# Altium footprint library D 电源模块.PcbLib: 107 footprints (part 3 of 7)
Each footprint in its own frame and in the unit in brackets; x right, y up, seen from the top. Pads: shape width x height; smd on the part's side, far side on the other; paste and mask are expansions set on the pad; w line width, h text height; cw(c..) or ccw(c..) is an arc to the next point about the centre after c.
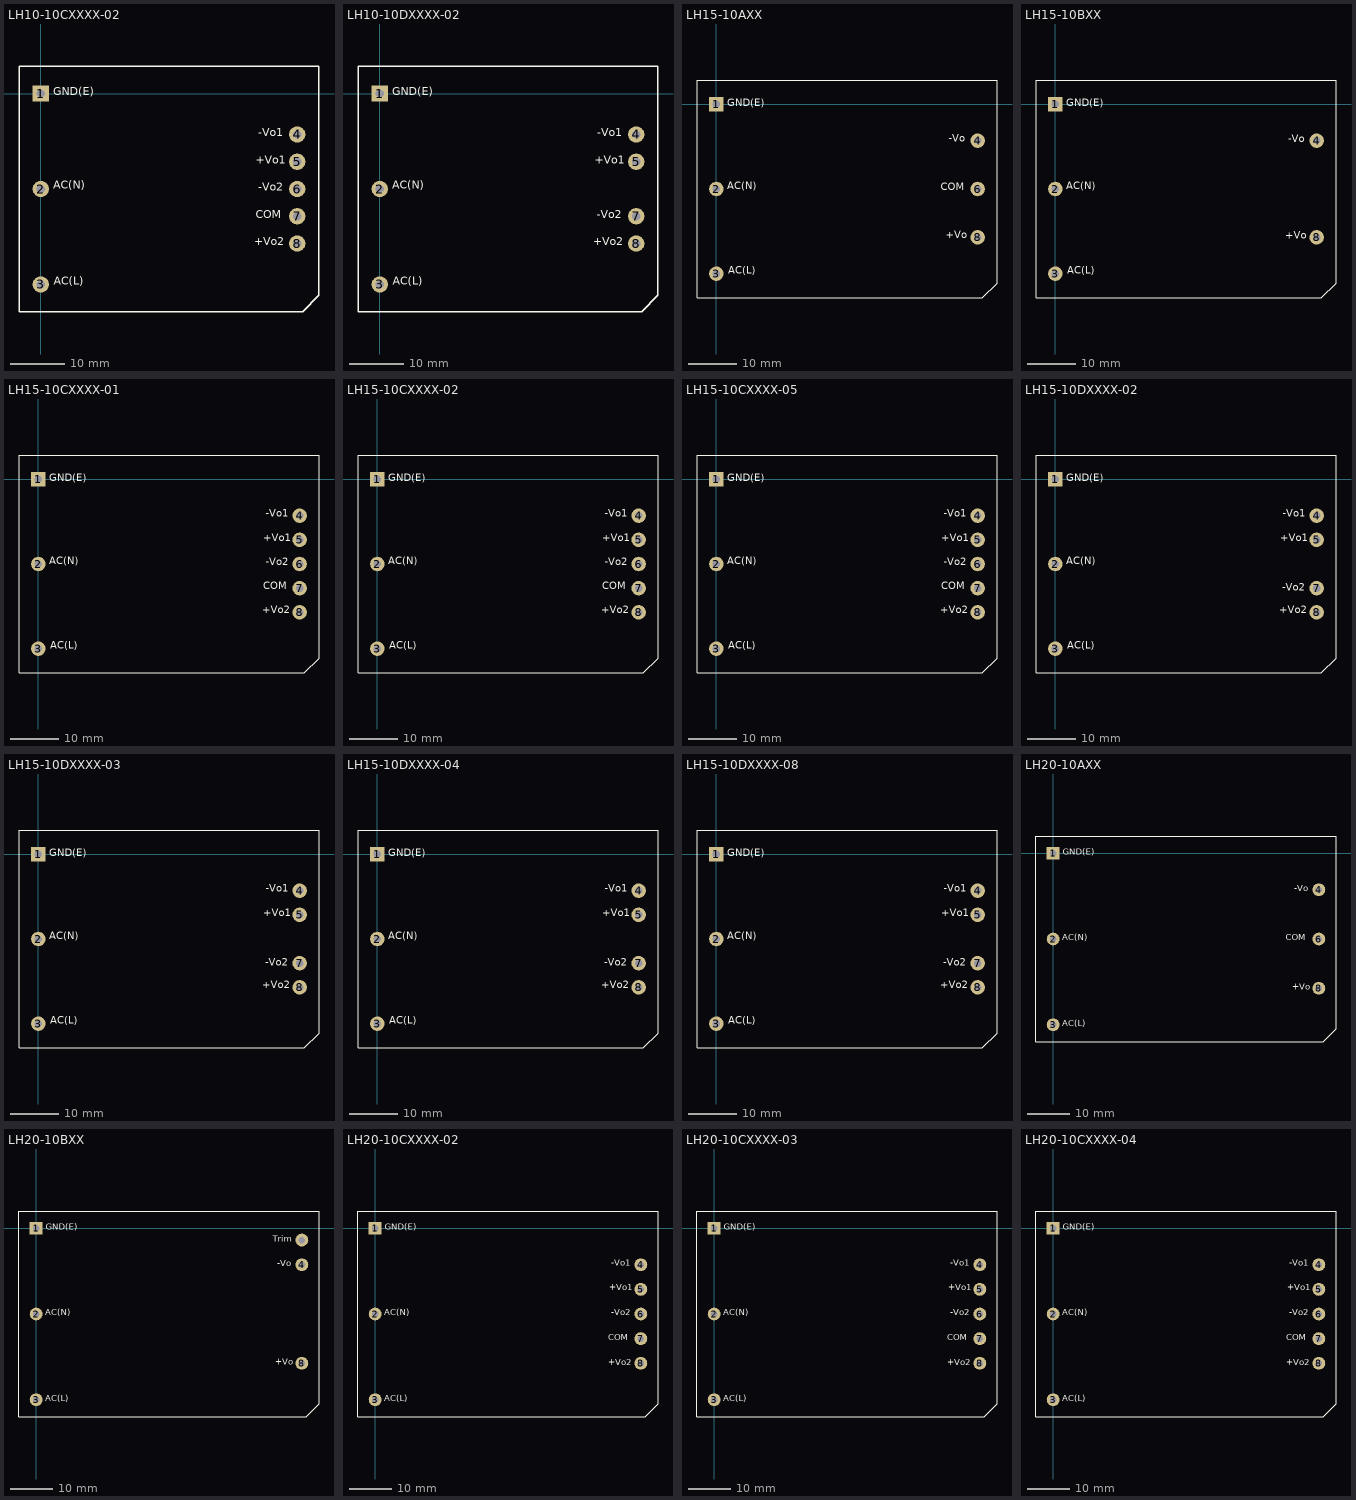
[diagram p2: the footprints below, top view; thin cyan lines are the x and y axes]

## LH10-10CXXXX-02 [mm] "金升阳 10. W 高性能小体积标准AC-DC模块(85-265VAC,120-370VDC)"
height 21
pads (8):
  rect 3x3 hole 1.5: 1(0,0)
  round 3 hole 1.5: 2(0,-17.5) 3(0,-35) 4(47,-7.5) 5(47,-12.5) 6(47,-17.5) 7(47,-22.5) 8(47,-27.5)
Top Overlay:
  lines w0.254: -4,-40 -4,5 51,5 51,-37 48,-40 -4,-40
  text "+Vo1" at 39.37,-13.462 h2.54
  text "+Vo2" at 39.116,-28.321 h2.54
  text "-Vo1" at 39.878,-8.382 h2.54
  text "AC(L)" at 2.413,-35.56 h2.54
  text "AC(N)" at 2.286,-18.034 h2.54
  text "GND(E)" at 2.286,-0.889 h2.54
  text "-Vo2" at 39.878,-18.415 h2.54
  text "COM" at 39.37,-23.368 h2.54
Bottom Overlay:
  text "+Vo1" at 44.196,-13.462 h2.54
  text "AC(L)" at 8.382,-35.56 h2.54
  text "AC(N)" at 8.636,-18.034 h2.54
  text "GND(E)" at 10.16,-0.889 h2.54
  text "-Vo1" at 44.196,-8.382 h2.54
  text "+Vo2" at 44.196,-28.448 h2.54
  text "-Vo2" at 44.323,-18.415 h2.54
  text "COM" at 44.323,-23.368 h2.54

## LH10-10DXXXX-02 [mm] "金升阳 10W 高性能小体积标准AC-DC模块(85-265VAC,120-370VDC)"
height 21
pads (7):
  rect 3x3 hole 1.5: 1(0,0)
  round 3 hole 1.5: 2(0,-17.5) 3(0,-35) 4(47,-7.5) 5(47,-12.5) 7(47,-22.5) 8(47,-27.5)
Top Overlay:
  lines w0.254: -4,-40 48,-40 51,-37 51,5 -4,5 -4,-40
  text "-Vo2" at 39.751,-23.368 h2.54
  text "GND(E)" at 2.286,-0.889 h2.54
  text "AC(N)" at 2.286,-18.034 h2.54
  text "AC(L)" at 2.413,-35.56 h2.54
  text "-Vo1" at 39.878,-8.382 h2.54
  text "+Vo2" at 39.116,-28.321 h2.54
  text "+Vo1" at 39.37,-13.462 h2.54
Bottom Overlay:
  text "-Vo2" at 44.196,-23.368 h2.54
  text "+Vo2" at 44.196,-28.448 h2.54
  text "-Vo1" at 44.196,-8.382 h2.54
  text "GND(E)" at 10.16,-0.889 h2.54
  text "AC(N)" at 8.636,-18.034 h2.54
  text "AC(L)" at 8.382,-35.56 h2.54
  text "+Vo1" at 44.196,-13.462 h2.54

## LH15-10AXX [mm] "金升阳 15 W 高性能小体积标准AC-DC模块(85-265VAC,120-370VDC)"
height 22.5
pads (6):
  rect 3x3 hole 1.5: 1(0,0)
  round 3 hole 1.5: 2(0,-17.5) 3(0,-35) 4(54,-7.5) 6(54,-17.5) 8(54,-27.5)
Top Overlay:
  lines w0.254: -4,-40 55,-40 58,-37 58,5 -4,5 -4,-40
  text "COM" at 46.355,-18.288 h2.54
  text "GND(E)" at 2.286,-0.889 h2.54
  text "AC(N)" at 2.286,-18.034 h2.54
  text "AC(L)" at 2.413,-35.56 h2.54
  text "-Vo" at 48.006,-8.255 h2.54
  text "+Vo" at 47.371,-28.194 h2.54
Bottom Overlay:
  text "COM" at 51.308,-18.288 h2.54
  text "+Vo" at 51.308,-28.321 h2.54
  text "-Vo" at 51.308,-8.255 h2.54
  text "GND(E)" at 10.16,-0.889 h2.54
  text "AC(N)" at 8.636,-18.034 h2.54
  text "AC(L)" at 8.382,-35.56 h2.54

## LH15-10BXX [mm] "金升阳 15 W 高性能小体积标准AC-DC模块(85-265VAC,120-370VDC)"
height 22.5
pads (5):
  rect 3x3 hole 1.5: 1(0,0)
  round 3 hole 1.5: 2(0,-17.5) 3(0,-35) 4(54,-7.5) 8(54,-27.5)
Top Overlay:
  lines w0.254: -4,-40 -4,5 58,5 58,-37 55,-40 -4,-40
  text "+Vo" at 47.498,-28.321 h2.54
  text "-Vo" at 48.133,-8.382 h2.54
  text "AC(L)" at 2.413,-35.56 h2.54
  text "AC(N)" at 2.286,-18.034 h2.54
  text "GND(E)" at 2.286,-0.889 h2.54
Bottom Overlay:
  text "AC(L)" at 8.382,-35.56 h2.54
  text "AC(N)" at 8.636,-18.034 h2.54
  text "GND(E)" at 10.16,-0.889 h2.54
  text "-Vo" at 51.308,-8.255 h2.54
  text "+Vo" at 51.308,-28.321 h2.54

## LH15-10CXXXX-01 [mm] "金升阳 15 W 高性能小体积标准AC-DC模块(85-265VAC,120-370VDC)"
height 22.5
pads (8):
  rect 3x3 hole 1.5: 1(0,0)
  round 3 hole 1.5: 2(0,-17.5) 3(0,-35) 4(54,-7.5) 5(54,-12.5) 6(54,-17.5) 7(54,-22.5) 8(54,-27.5)
Top Overlay:
  lines w0.254: -4,-40 55,-40 58,-37 58,5 -4,5 -4,-40
  text "COM" at 46.482,-23.241 h2.54
  text "-Vo2" at 46.99,-18.288 h2.54
  text "GND(E)" at 2.286,-0.889 h2.54
  text "AC(N)" at 2.286,-18.034 h2.54
  text "AC(L)" at 2.413,-35.56 h2.54
  text "-Vo1" at 46.99,-8.255 h2.54
  text "+Vo2" at 46.228,-28.194 h2.54
  text "+Vo1" at 46.482,-13.335 h2.54
Bottom Overlay:
  text "COM" at 51.435,-23.241 h2.54
  text "-Vo2" at 51.435,-18.288 h2.54
  text "+Vo2" at 51.308,-28.321 h2.54
  text "-Vo1" at 51.308,-8.255 h2.54
  text "GND(E)" at 10.16,-0.889 h2.54
  text "AC(N)" at 8.636,-18.034 h2.54
  text "AC(L)" at 8.382,-35.56 h2.54
  text "+Vo1" at 51.308,-13.335 h2.54

## LH15-10CXXXX-02 [mm] "金升阳 15 W 高性能小体积标准AC-DC模块(85-265VAC,120-370VDC)"
height 22.5
pads (8):
  rect 3x3 hole 1.5: 1(0,0)
  round 3 hole 1.5: 2(0,-17.5) 3(0,-35) 4(54,-7.5) 5(54,-12.5) 6(54,-17.5) 7(54,-22.5) 8(54,-27.5)
Top Overlay:
  lines w0.254: -4,-40 -4,5 58,5 58,-37 55,-40 -4,-40
  text "+Vo1" at 46.482,-13.335 h2.54
  text "+Vo2" at 46.228,-28.194 h2.54
  text "-Vo1" at 46.99,-8.255 h2.54
  text "AC(L)" at 2.413,-35.56 h2.54
  text "AC(N)" at 2.286,-18.034 h2.54
  text "GND(E)" at 2.286,-0.889 h2.54
  text "-Vo2" at 46.99,-18.288 h2.54
  text "COM" at 46.482,-23.241 h2.54
Bottom Overlay:
  text "+Vo1" at 51.308,-13.335 h2.54
  text "AC(L)" at 8.382,-35.56 h2.54
  text "AC(N)" at 8.636,-18.034 h2.54
  text "GND(E)" at 10.16,-0.889 h2.54
  text "-Vo1" at 51.308,-8.255 h2.54
  text "+Vo2" at 51.308,-28.321 h2.54
  text "-Vo2" at 51.435,-18.288 h2.54
  text "COM" at 51.435,-23.241 h2.54

## LH15-10CXXXX-05 [mm] "金升阳 15 W 高性能小体积标准AC-DC模块(85-265VAC,120-370VDC)"
height 22.5
pads (8):
  rect 3x3 hole 1.5: 1(0,0)
  round 3 hole 1.5: 2(0,-17.5) 3(0,-35) 4(54,-7.5) 5(54,-12.5) 6(54,-17.5) 7(54,-22.5) 8(54,-27.5)
Top Overlay:
  lines w0.254: -4,-40 -4,5 58,5 58,-37 55,-40 -4,-40
  text "+Vo1" at 46.482,-13.335 h2.54
  text "+Vo2" at 46.228,-28.194 h2.54
  text "-Vo1" at 46.99,-8.255 h2.54
  text "AC(L)" at 2.413,-35.56 h2.54
  text "AC(N)" at 2.286,-18.034 h2.54
  text "GND(E)" at 2.286,-0.889 h2.54
  text "-Vo2" at 46.99,-18.288 h2.54
  text "COM" at 46.482,-23.241 h2.54
Bottom Overlay:
  text "+Vo1" at 51.308,-13.335 h2.54
  text "AC(L)" at 8.382,-35.56 h2.54
  text "AC(N)" at 8.636,-18.034 h2.54
  text "GND(E)" at 10.16,-0.889 h2.54
  text "-Vo1" at 51.308,-8.255 h2.54
  text "+Vo2" at 51.308,-28.321 h2.54
  text "-Vo2" at 51.435,-18.288 h2.54
  text "COM" at 51.435,-23.241 h2.54

## LH15-10DXXXX-02 [mm] "金升阳 15 W 高性能小体积标准AC-DC模块(85-265VAC,120-370VDC)"
height 22.5
pads (7):
  rect 3x3 hole 1.5: 1(0,0)
  round 3 hole 1.5: 2(0,-17.5) 3(0,-35) 4(54,-7.5) 5(54,-12.5) 7(54,-22.5) 8(54,-27.5)
Top Overlay:
  lines w0.254: -4,-40 -4,5 58,5 58,-37 55,-40 -4,-40
  text "+Vo1" at 46.482,-13.335 h2.54
  text "+Vo2" at 46.228,-28.194 h2.54
  text "-Vo1" at 46.99,-8.255 h2.54
  text "AC(L)" at 2.413,-35.56 h2.54
  text "AC(N)" at 2.286,-18.034 h2.54
  text "GND(E)" at 2.286,-0.889 h2.54
  text "-Vo2" at 46.863,-23.495 h2.54
Bottom Overlay:
  text "+Vo1" at 51.308,-13.335 h2.54
  text "AC(L)" at 8.382,-35.56 h2.54
  text "AC(N)" at 8.636,-18.034 h2.54
  text "GND(E)" at 10.16,-0.889 h2.54
  text "-Vo1" at 51.308,-8.255 h2.54
  text "+Vo2" at 51.308,-28.321 h2.54
  text "-Vo2" at 51.308,-23.495 h2.54

## LH15-10DXXXX-03 [mm] "金升阳 15 W 高性能小体积标准AC-DC模块(85-265VAC,120-370VDC)"
height 22.5
pads (7):
  rect 3x3 hole 1.5: 1(0,0)
  round 3 hole 1.5: 2(0,-17.5) 3(0,-35) 4(54,-7.5) 5(54,-12.5) 7(54,-22.5) 8(54,-27.5)
Top Overlay:
  lines w0.254: -4,-40 55,-40 58,-37 58,5 -4,5 -4,-40
  text "-Vo2" at 46.863,-23.495 h2.54
  text "GND(E)" at 2.286,-0.889 h2.54
  text "AC(N)" at 2.286,-18.034 h2.54
  text "AC(L)" at 2.413,-35.56 h2.54
  text "-Vo1" at 46.99,-8.255 h2.54
  text "+Vo2" at 46.228,-28.194 h2.54
  text "+Vo1" at 46.482,-13.335 h2.54
Bottom Overlay:
  text "-Vo2" at 51.308,-23.495 h2.54
  text "+Vo2" at 51.308,-28.321 h2.54
  text "-Vo1" at 51.308,-8.255 h2.54
  text "GND(E)" at 10.16,-0.889 h2.54
  text "AC(N)" at 8.636,-18.034 h2.54
  text "AC(L)" at 8.382,-35.56 h2.54
  text "+Vo1" at 51.308,-13.335 h2.54

## LH15-10DXXXX-04 [mm] "金升阳 15 W 高性能小体积标准AC-DC模块(85-265VAC,120-370VDC)"
height 22.5
pads (7):
  rect 3x3 hole 1.5: 1(0,0)
  round 3 hole 1.5: 2(0,-17.5) 3(0,-35) 4(54,-7.5) 5(54,-12.5) 7(54,-22.5) 8(54,-27.5)
Top Overlay:
  lines w0.254: -4,-40 55,-40 58,-37 58,5 -4,5 -4,-40
  text "-Vo2" at 46.863,-23.495 h2.54
  text "GND(E)" at 2.286,-0.889 h2.54
  text "AC(N)" at 2.286,-18.034 h2.54
  text "AC(L)" at 2.413,-35.56 h2.54
  text "-Vo1" at 46.99,-8.255 h2.54
  text "+Vo2" at 46.228,-28.194 h2.54
  text "+Vo1" at 46.482,-13.335 h2.54
Bottom Overlay:
  text "-Vo2" at 51.308,-23.495 h2.54
  text "+Vo2" at 51.308,-28.321 h2.54
  text "-Vo1" at 51.308,-8.255 h2.54
  text "GND(E)" at 10.16,-0.889 h2.54
  text "AC(N)" at 8.636,-18.034 h2.54
  text "AC(L)" at 8.382,-35.56 h2.54
  text "+Vo1" at 51.308,-13.335 h2.54

## LH15-10DXXXX-08 [mm] "金升阳 15 W 高性能小体积标准AC-DC模块(85-265VAC,120-370VDC)"
height 22.5
pads (7):
  rect 3x3 hole 1.5: 1(0,0)
  round 3 hole 1.5: 2(0,-17.5) 3(0,-35) 4(54,-7.5) 5(54,-12.5) 7(54,-22.5) 8(54,-27.5)
Top Overlay:
  lines w0.254: -4,-40 -4,5 58,5 58,-37 55,-40 -4,-40
  text "+Vo1" at 46.482,-13.335 h2.54
  text "+Vo2" at 46.228,-28.194 h2.54
  text "-Vo1" at 46.99,-8.255 h2.54
  text "AC(L)" at 2.413,-35.56 h2.54
  text "AC(N)" at 2.286,-18.034 h2.54
  text "GND(E)" at 2.286,-0.889 h2.54
  text "-Vo2" at 46.863,-23.495 h2.54
Bottom Overlay:
  text "+Vo1" at 51.308,-13.335 h2.54
  text "AC(L)" at 8.382,-35.56 h2.54
  text "AC(N)" at 8.636,-18.034 h2.54
  text "GND(E)" at 10.16,-0.889 h2.54
  text "-Vo1" at 51.308,-8.255 h2.54
  text "+Vo2" at 51.308,-28.321 h2.54
  text "-Vo2" at 51.308,-23.495 h2.54

## LH20-10AXX [mm] "金升阳 20 W 高性能小体积标准AC-DC模块(85-265VAC,120-370VDC)"
height 23.5
pads (6):
  rect 3x3 hole 1.5: 1(0,0)
  round 3 hole 1.5: 2(0,-20) 3(0,-40) 4(62,-8.5) 6(62,-20) 8(62,-31.5)
Top Overlay:
  lines w0.254: -4,-44 63,-44 66,-41 66,4 -4,4 -4,-44
  text "GND(E)" at 2.286,-0.889 h2.54
  text "AC(N)" at 2.159,-20.828 h2.54
  text "AC(L)" at 2.159,-40.894 h2.54
  text "-Vo" at 56.261,-9.398 h2.54
  text "+Vo" at 55.753,-32.385 h2.54
  text "COM" at 54.229,-20.828 h2.54
Bottom Overlay:
  text "+Vo" at 59.563,-32.385 h2.54
  text "-Vo" at 59.436,-9.271 h2.54
  text "GND(E)" at 10.16,-0.889 h2.54
  text "AC(N)" at 8.509,-20.828 h2.54
  text "AC(L)" at 8.128,-40.894 h2.54
  text "COM" at 59.436,-20.828 h2.54

## LH20-10BXX [mm] "金升阳 20 W 高性能小体积标准AC-DC模块(85-265VAC,120-370VDC)"
height 23.5
pads (6):
  rect 3x3 hole 1.5: 1(0,0)
  round 3 hole 1.5: 2(0,-20) 3(0,-40) 4(62,-8.5) 8(62,-31.5) Trim(62,-2.75)
Top Overlay:
  lines w0.254: -4,-44 63,-44 66,-41 66,4 -4,4 -4,-44
  text "GND(E)" at 2.286,-0.889 h2.54
  text "AC(N)" at 2.159,-20.828 h2.54
  text "AC(L)" at 2.159,-40.894 h2.54
  text "Trim" at 55.245,-3.683 h2.54
  text "-Vo" at 56.261,-9.398 h2.54
  text "+Vo" at 55.753,-32.385 h2.54
Bottom Overlay:
  text "+Vo" at 59.563,-32.385 h2.54
  text "-Vo" at 59.436,-9.271 h2.54
  text "Trim" at 59.69,-3.683 h2.54
  text "GND(E)" at 10.16,-0.889 h2.54
  text "AC(N)" at 8.509,-20.828 h2.54
  text "AC(L)" at 8.128,-40.894 h2.54

## LH20-10CXXXX-02 [mm] "金升阳 20W 高性能小体积标准AC-DC模块(85-265VAC,120-370VDC)"
height 23.5
pads (8):
  rect 3x3 hole 1.5: 1(0,0)
  round 3 hole 1.5: 2(0,-20) 3(0,-40) 4(62,-8.5) 5(62,-14.25) 6(62,-20) 7(62,-25.75) 8(62,-31.5)
Top Overlay:
  lines w0.254: -4,-44 63,-44 66,-41 66,4 -4,4 -4,-44
  text "+Vo1" at 54.61,-14.986 h2.54
  text "GND(E)" at 2.286,-0.889 h2.54
  text "AC(N)" at 2.159,-20.828 h2.54
  text "AC(L)" at 2.159,-40.894 h2.54
  text "-Vo1" at 55.118,-9.271 h2.54
  text "-Vo2" at 55.118,-20.828 h2.54
  text "COM" at 54.356,-26.67 h2.54
  text "+Vo2" at 54.356,-32.512 h2.54
Bottom Overlay:
  text "+Vo1" at 59.436,-14.986 h2.54
  text "-Vo1" at 59.436,-9.271 h2.54
  text "GND(E)" at 10.16,-0.889 h2.54
  text "AC(N)" at 8.509,-20.828 h2.54
  text "AC(L)" at 8.128,-40.894 h2.54
  text "-Vo2" at 59.436,-20.828 h2.54
  text "COM" at 59.436,-26.67 h2.54
  text "+Vo2" at 59.436,-32.385 h2.54

## LH20-10CXXXX-03 [mm] "金升阳 20W 高性能小体积标准AC-DC模块(85-265VAC,120-370VDC)"
height 23.5
pads (8):
  rect 3x3 hole 1.5: 1(0,0)
  round 3 hole 1.5: 2(0,-20) 3(0,-40) 4(62,-8.5) 5(62,-14.25) 6(62,-20) 7(62,-25.75) 8(62,-31.5)
Top Overlay:
  lines w0.254: -4,-44 63,-44 66,-41 66,4 -4,4 -4,-44
  text "+Vo1" at 54.61,-14.986 h2.54
  text "GND(E)" at 2.286,-0.889 h2.54
  text "AC(N)" at 2.159,-20.828 h2.54
  text "AC(L)" at 2.159,-40.894 h2.54
  text "-Vo1" at 55.118,-9.271 h2.54
  text "-Vo2" at 55.118,-20.828 h2.54
  text "COM" at 54.356,-26.67 h2.54
  text "+Vo2" at 54.356,-32.512 h2.54
Bottom Overlay:
  text "+Vo1" at 59.436,-14.986 h2.54
  text "-Vo1" at 59.436,-9.271 h2.54
  text "GND(E)" at 10.16,-0.889 h2.54
  text "AC(N)" at 8.509,-20.828 h2.54
  text "AC(L)" at 8.128,-40.894 h2.54
  text "-Vo2" at 59.436,-20.828 h2.54
  text "COM" at 59.436,-26.67 h2.54
  text "+Vo2" at 59.436,-32.385 h2.54

## LH20-10CXXXX-04 [mm] "金升阳 20W 高性能小体积标准AC-DC模块(85-265VAC,120-370VDC)"
height 23.5
pads (8):
  rect 3x3 hole 1.5: 1(0,0)
  round 3 hole 1.5: 2(0,-20) 3(0,-40) 4(62,-8.5) 5(62,-14.25) 6(62,-20) 7(62,-25.75) 8(62,-31.5)
Top Overlay:
  lines w0.254: -4,-44 63,-44 66,-41 66,4 -4,4 -4,-44
  text "+Vo1" at 54.61,-14.986 h2.54
  text "GND(E)" at 2.286,-0.889 h2.54
  text "AC(N)" at 2.159,-20.828 h2.54
  text "AC(L)" at 2.159,-40.894 h2.54
  text "-Vo1" at 55.118,-9.271 h2.54
  text "-Vo2" at 55.118,-20.828 h2.54
  text "COM" at 54.356,-26.67 h2.54
  text "+Vo2" at 54.356,-32.512 h2.54
Bottom Overlay:
  text "+Vo1" at 59.436,-14.986 h2.54
  text "-Vo1" at 59.436,-9.271 h2.54
  text "GND(E)" at 10.16,-0.889 h2.54
  text "AC(N)" at 8.509,-20.828 h2.54
  text "AC(L)" at 8.128,-40.894 h2.54
  text "-Vo2" at 59.436,-20.828 h2.54
  text "COM" at 59.436,-26.67 h2.54
  text "+Vo2" at 59.436,-32.385 h2.54